# Altium footprint library PCB - LEADLESS - BGA - STM WLCSP-56 B0H4.PcbLib: 1 footprints
Each footprint in its own frame and in the unit in brackets; x right, y up, seen from the top. Pads: shape width x height; smd on the part's side, far side on the other; paste and mask are expansions set on the pad; w line width, h text height; cw(c..) or ccw(c..) is an arc to the next point about the centre after c.
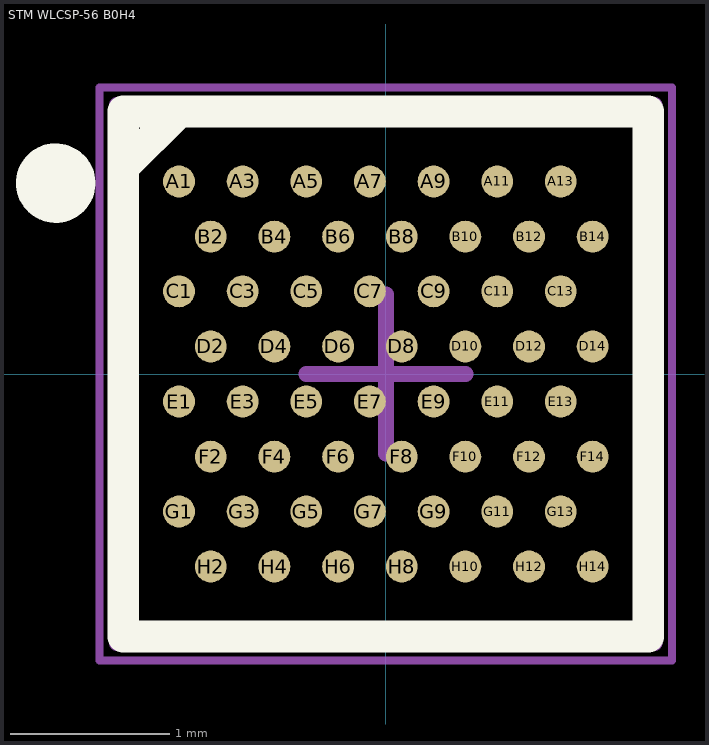
[diagram p0: the footprint, top view; thin cyan lines are the x and y axes]

## STM WLCSP-56 B0H4 [mm] "WLCSP 56-Leads, Body 3.38x3.38mmx0.59mm, Pitch 0.20mm"
height 0.59
pads (56):
  round 0.2 smd: A1(-1.3,1.21) A3(-0.9,1.21) A5(-0.5,1.21) A7(-0.1,1.21) A9(0.3,1.21) A11(0.7,1.21) A13(1.1,1.21) B2(-1.1,0.864) B4(-0.7,0.864) B6(-0.3,0.864) B8(0.1,0.864) B10(0.5,0.864) B12(0.9,0.864) B14(1.3,0.864) C1(-1.3,0.519) C3(-0.9,0.519) C5(-0.5,0.519) C7(-0.1,0.519) C9(0.3,0.519) C11(0.7,0.519) C13(1.1,0.519) D2(-1.1,0.173) D4(-0.7,0.173) D6(-0.3,0.173) D8(0.1,0.173) D10(0.5,0.173) D12(0.9,0.173) D14(1.3,0.173) E1(-1.3,-0.173) E3(-0.9,-0.173) E5(-0.5,-0.173) E7(-0.1,-0.173) E9(0.3,-0.173) E11(0.7,-0.173) E13(1.1,-0.173) F2(-1.1,-0.519) F4(-0.7,-0.519) F6(-0.3,-0.519) F8(0.1,-0.519) F10(0.5,-0.519) F12(0.9,-0.519) F14(1.3,-0.519) G1(-1.3,-0.864) G3(-0.9,-0.864) G5(-0.5,-0.864) G7(-0.1,-0.864) G9(0.3,-0.864) G11(0.7,-0.864) G13(1.1,-0.864) H2(-1.1,-1.21) H4(-0.7,-1.21) H6(-0.3,-1.21) H8(0.1,-1.21) H10(0.5,-1.21) H12(0.9,-1.21) H14(1.3,-1.21)
Top Overlay:
  circle w0.25: c-2.075,1.2 r0.125
  lines w0.2: -1.65,1.3 -1.3,1.65 -1,1.65 ; -1.65,-1.65 -1.65,1.65 1.65,1.65 1.65,-1.65 -1.65,-1.65
Mechanical 13:
  lines w0.1: -1.69,-1.69 -1.69,1.69 1.69,1.69 1.69,-1.69 -1.69,-1.69
Mechanical 15:
  lines w0.05: -1.8,-1.8 -1.8,1.8 1.8,1.8 1.8,-1.8 -1.8,-1.8
  lines w0.1: -0.5,0 0.5,0 ; 0,-0.5 0,0.5
3D body "STM WLCSP-56 B0H4.step": height 0.59, standoff 0, extent -1.69,-1.69 1.69,1.69